# Altium schematic symbol library WR-SMP.SchLib: 9 symbols
Pins are listed as number, name and electrical type; pins without a type are passive.

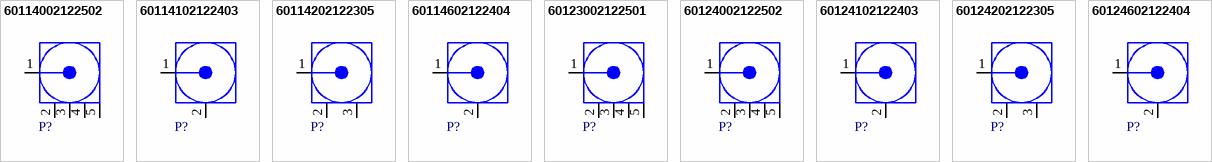
[diagram p0: symbols 60114002122502 to 60124602122404]

## 60114002122502
designator P?  (value not drawn)
WR-SMP Connector, PCB THT Plug, Straight, DC~12GHz, 50Ω; Manufacturer: Wurth Elektronik; Center Contact Diameter: 0.7mm; Connector Type: SMP; Interface Type: MIL-STD-348; ComponentLink1Description: Website Link; ComponentLink1URL: https://www.we-online.com/redexpert/article/60114002122502?ad; ComponentLink2Description: Datasheet Link; ComponentLink2URL: https://www.we-online.com/redexpert/spec/60114002122502?ad; Manufacturer Part Number: 60114002122502; Category: Coaxial Connectors; Match Code: WR-SMP; Mount: Through Hole; Operating Temperature Max: 165°C; Operating Temperature Min: -65°C; Packaging: Tray; Frequency Range: DC~12GHz; Gender: Plug; Impedance: 50Ω; Orientation: Straight
footprint 60114002122502
pins: 1 Signal "Signal Pin", 2 GND, 3 GND, 4 GND, 5 GND

## 60114102122403
designator P?  (value not drawn)
WR-SMP Connector, PCB SMT Plug, Straight, DC~12GHz, 50Ω; Manufacturer: Wurth Elektronik; Center Contact Diameter: 0.4mm; Connector Type: SMP; Interface Type: MIL-STD-348; ComponentLink1Description: Website Link; ComponentLink1URL: https://www.we-online.com/redexpert/article/60114102122403?ad; ComponentLink2Description: Datasheet Link; ComponentLink2URL: https://www.we-online.com/redexpert/spec/60114102122403?ad; Manufacturer Part Number: 60114102122403; Category: Coaxial Connectors; Match Code: WR-SMP; Mount: Surface Mount; Operating Temperature Max: 165°C; Operating Temperature Min: -65°C; Packaging: Tape and Reel; Frequency Range: DC~12GHz; Gender: Plug; Impedance: 50Ω; Orientation: Straight
footprint 60114102122403
pins: 1 Signal "Signal Pin", 2 GND

## 60114202122305
designator P?  (value not drawn)
WR-SMP Connector, PCB End Launch Plug, Straight, DC~12GHz, 50Ω; Manufacturer: Wurth Elektronik; Center Contact Diameter: 0.38mm; Connector Type: SMP; Interface Type: MIL-STD-348; ComponentLink1Description: Website Link; ComponentLink1URL: https://www.we-online.com/redexpert/article/60114202122305?ad; ComponentLink2Description: Datasheet Link; ComponentLink2URL: https://www.we-online.com/redexpert/spec/60114202122305?ad; Manufacturer Part Number: 60114202122305; Category: Coaxial Connectors; Match Code: WR-SMP; Mount: End Launch; Operating Temperature Max: 165°C; Operating Temperature Min: -65°C; Packaging: Tape and Reel; Frequency Range: DC~12GHz; Gender: Plug; Impedance: 50Ω; Orientation: Straight
footprint 60114202122305
pins: 1 Signal "Signal Pin", 2 GND, 3 GND

## 60114602122404
designator P?  (value not drawn)
WR-SMP Connector, PCB THR Plug, Straight, DC~12GHz, 50Ω; Manufacturer: Wurth Elektronik; Center Contact Diameter: 0.4mm; Connector Type: SMP; Interface Type: MIL-STD-348; ComponentLink1Description: Website Link; ComponentLink1URL: https://www.we-online.com/redexpert/article/60114602122404?ad; ComponentLink2Description: Datasheet Link; ComponentLink2URL: https://www.we-online.com/redexpert/spec/60114602122404?ad; Manufacturer Part Number: 60114602122404; Category: Coaxial Connectors; Match Code: WR-SMP; Mount: Through Hole Reflow; Operating Temperature Max: 165°C; Operating Temperature Min: -65°C; Packaging: Tape and Reel; Frequency Range: DC~12GHz; Gender: Plug; Impedance: 50Ω; Orientation: Straight
footprint 60114602122404
pins: 1 Signal "Signal Pin", 2 GND

## 60123002122501
designator P?  (value not drawn)
WR-SMP Connector, PCB THT Plug, Right Angle, DC~12GHz, 50Ω; Manufacturer: Wurth Elektronik; Center Contact Diameter: 0.7mm; Connector Type: SMP; Interface Type: MIL-STD-348; ComponentLink1Description: Website Link; ComponentLink1URL: https://www.we-online.com/redexpert/article/60123002122501?ad; ComponentLink2Description: Datasheet Link; ComponentLink2URL: https://www.we-online.com/redexpert/spec/60123002122501?ad; Manufacturer Part Number: 60123002122501; Category: Coaxial Connectors; Match Code: WR-SMP; Mount: Through Hole; Operating Temperature Max: 165°C; Operating Temperature Min: -65°C; Packaging: Tray; Frequency Range: DC~12GHz; Gender: Plug; Impedance: 50Ω; Orientation: Right Angle
footprint 60123002122501
pins: 1 Signal "Signal Pin", 2 GND, 3 GND, 4 GND, 5 GND

## 60124002122502
designator P?  (value not drawn)
WR-SMP Connector, PCB THT Plug, Straight, DC~12GHz, 50Ω; Manufacturer: Wurth Elektronik; Center Contact Diameter: 0.7mm; Connector Type: SMP; Interface Type: MIL-STD-348; ComponentLink1Description: Website Link; ComponentLink1URL: https://www.we-online.com/redexpert/article/60124002122502?ad; ComponentLink2Description: Datasheet Link; ComponentLink2URL: https://www.we-online.com/redexpert/spec/60124002122502?ad; Manufacturer Part Number: 60124002122502; Category: Coaxial Connectors; Match Code: WR-SMP; Mount: Through Hole; Operating Temperature Max: 165°C; Operating Temperature Min: -65°C; Packaging: Tray; Frequency Range: DC~12GHz; Gender: Plug; Impedance: 50Ω; Orientation: Straight
footprint 60124002122502
pins: 1 Signal "Signal Pin", 2 GND, 3 GND, 4 GND, 5 GND

## 60124102122403
designator P?  (value not drawn)
WR-SMP Connector, PCB SMT Plug, Straight, DC~12GHz, 50Ω; Manufacturer: Wurth Elektronik; Center Contact Diameter: 0.4mm; Connector Type: SMP; Interface Type: MIL-STD-348; ComponentLink1Description: Website Link; ComponentLink1URL: https://www.we-online.com/redexpert/article/60124102122403?ad; ComponentLink2Description: Datasheet Link; ComponentLink2URL: https://www.we-online.com/redexpert/spec/60124102122403?ad; Manufacturer Part Number: 60124102122403; Category: Coaxial Connectors; Match Code: WR-SMP; Mount: Surface Mount; Operating Temperature Max: 165°C; Operating Temperature Min: -65°C; Packaging: Tape and Reel; Frequency Range: DC~12GHz; Gender: Plug; Impedance: 50Ω; Orientation: Straight
footprint 60124102122403
pins: 1 Signal "Signal Pin", 2 GND

## 60124202122305
designator P?  (value not drawn)
WR-SMP Connector, PCB End Launch Plug, Straight, DC~12GHz, 50Ω; Manufacturer: Wurth Elektronik; Center Contact Diameter: 0.38mm; Connector Type: SMP; Interface Type: MIL-STD-348; ComponentLink1Description: Website Link; ComponentLink1URL: https://www.we-online.com/redexpert/article/60124202122305?ad; ComponentLink2Description: Datasheet Link; ComponentLink2URL: https://www.we-online.com/redexpert/spec/60124202122305?ad; Manufacturer Part Number: 60124202122305; Category: Coaxial Connectors; Match Code: WR-SMP; Mount: End Launch; Operating Temperature Max: 165°C; Operating Temperature Min: -65°C; Packaging: Tape and Reel; Frequency Range: DC~12GHz; Gender: Plug; Impedance: 50Ω; Orientation: Straight
footprint 60124202122305
pins: 1 Signal "Signal Pin", 2 GND, 3 GND

## 60124602122404
designator P?  (value not drawn)
WR-SMP Connector, PCB THR Plug, Straight, DC~12GHz, 50Ω; Manufacturer: Wurth Elektronik; Center Contact Diameter: 0.4mm; Connector Type: SMP; Interface Type: MIL-STD-348; ComponentLink1Description: Website Link; ComponentLink1URL: https://www.we-online.com/redexpert/article/60124602122404?ad; ComponentLink2Description: Datasheet Link; ComponentLink2URL: https://www.we-online.com/redexpert/spec/60124602122404?ad; Manufacturer Part Number: 60124602122404; Category: Coaxial Connectors; Match Code: WR-SMP; Mount: Through Hole Reflow; Operating Temperature Max: 165°C; Operating Temperature Min: -65°C; Packaging: Tape and Reel; Frequency Range: DC~12GHz; Gender: Plug; Impedance: 50Ω; Orientation: Straight
footprint 60124602122404
pins: 1 Signal "Signal Pin", 2 GND